# Altium footprint library J16-TESTBOARD.PcbLib: 36 footprints (part 2 of 3)
Each footprint in its own frame and in the unit in brackets; x right, y up, seen from the top. Pads: shape width x height; smd on the part's side, far side on the other; paste and mask are expansions set on the pad; w line width, h text height; cw(c..) or ccw(c..) is an arc to the next point about the centre after c.
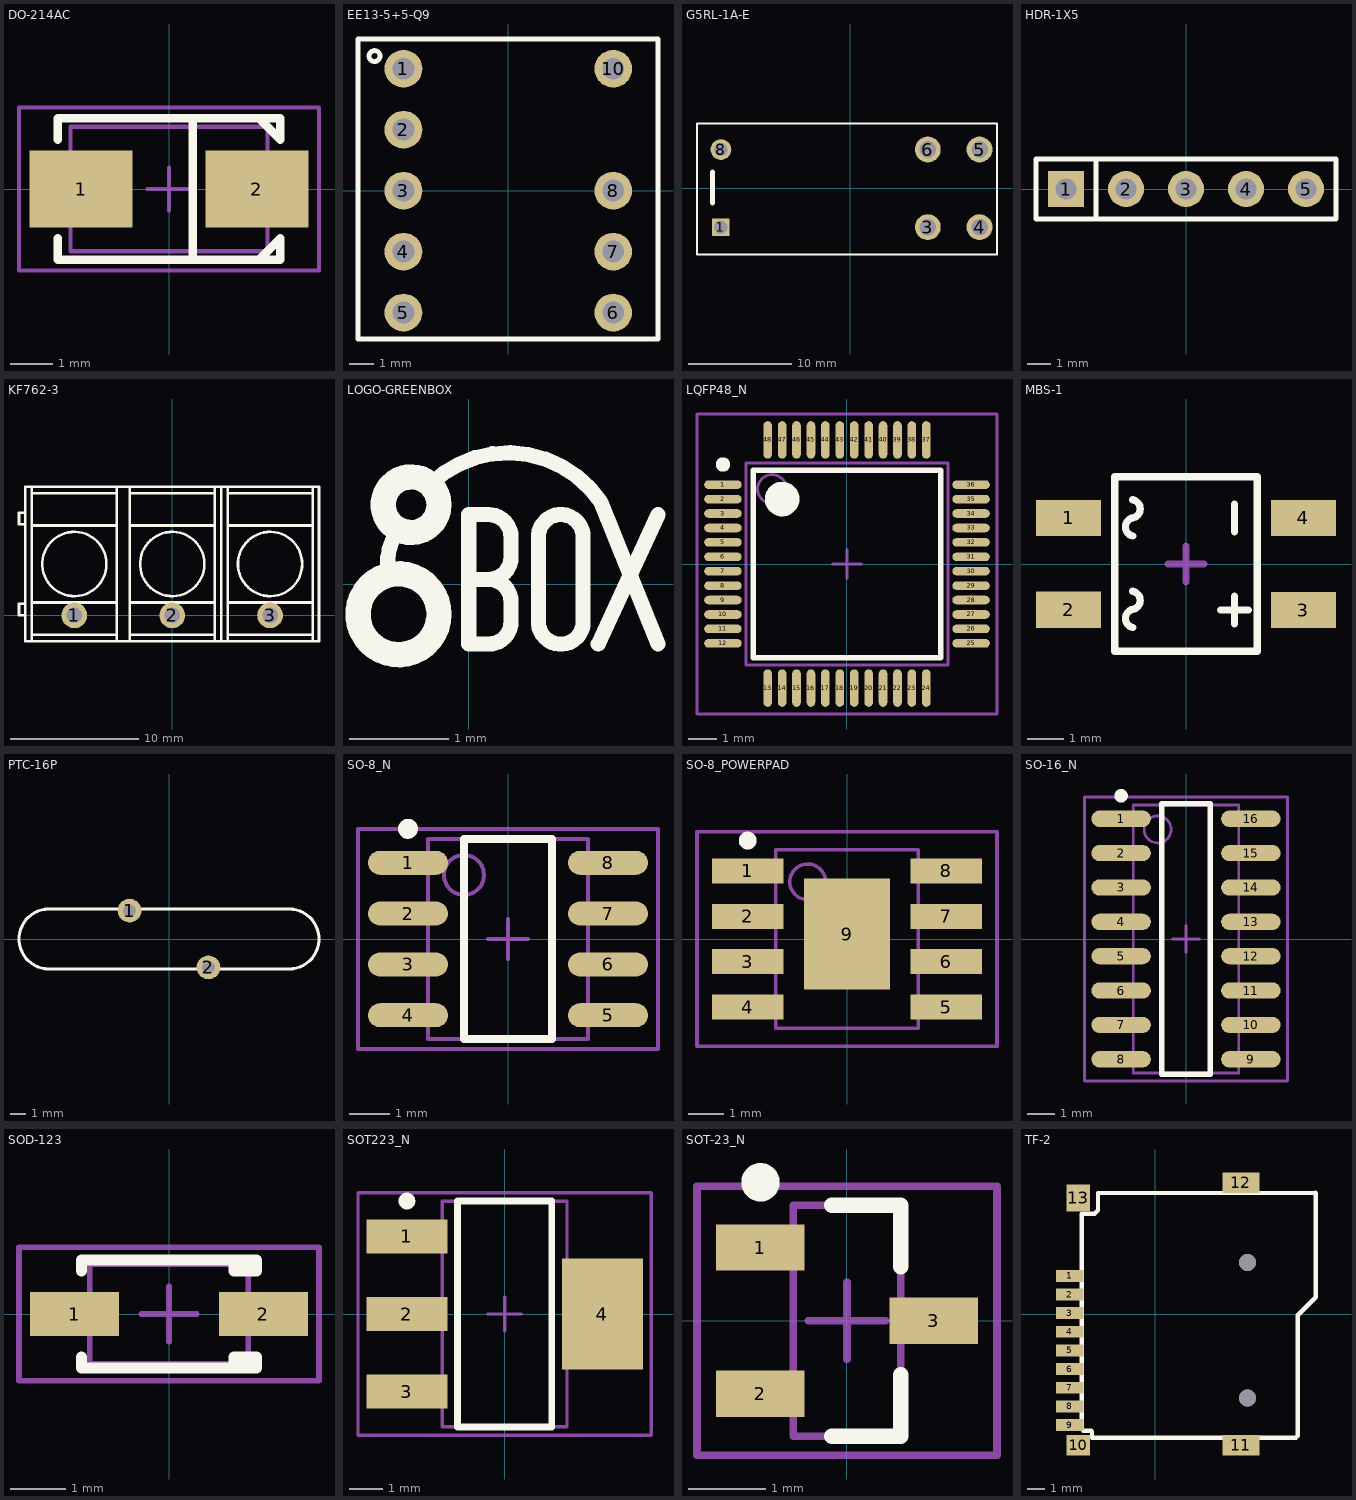
[diagram p1: the footprints below, top view; thin cyan lines are the x and y axes]

## DO-214AC [mm] "DO-214-AC/SMA; 2 C-Bend Leads; Body 5 x 2.7 mm, inc. leads (LxW)"
height 2.44
pads (2):
  rect 2.4x1.8 smd: 1(-2.05,0) 2(2.05,0)
Top Overlay:
  lines w0.2: -2.6,-1.15 -2.6,-1.65 2.6,-1.65 2.6,-1.15 2.1,-1.65 ; -2.6,1.15 -2.6,1.65 2.6,1.65 2.6,1.15 2.1,1.65 ; 0.55,-1.65 0.55,1.65
Mechanical 13:
  lines w0.1: -2.6,-0.8 -2.6,0.8 -1.75,0.8 -1.75,-0.8 -2.6,-0.8 ; -2.3,-1.45 -2.3,1.45 2.3,1.45 2.3,-1.45 -2.3,-1.45 ; 1.75,-0.8 2.6,-0.8 2.6,0.8 1.75,0.8 1.75,-0.8
Mechanical 15:
  lines w0.1: -0.5,0 0.5,0 ; 0,-0.5 0,0.5 ; -3.5,-1.9 -3.5,1.9 3.5,1.9 3.5,-1.9 -3.5,-1.9
3D body: height 2.6, standoff 0.03, extent -2.75,-1.4 2.75,1.4

## EE13-5+5-Q9 [mm]
height 10.8
pads (9):
  round 1.55 hole 0.9: 1(-4.3,5) 2(-4.3,2.5) 3(-4.3,0) 4(-4.3,-2.5) 5(-4.3,-5) 6(4.3,-5) 7(4.3,-2.5) 8(4.3,0) 10(4.3,5)
Top Overlay:
  circle w0.2: c-5.488,5.519 r0.224
  lines w0.2: 6.135,-6.081 -6.165,-6.081 -6.165,6.219 6.135,6.219 6.135,-6.024

## G5RL-1A-E [mm]
height 21
pads (6):
  rect 1.7x1.7 hole 1.3: 1(-12.5,-3.75)
  round 2.5 hole 1.6: 3(7.5,-3.75) 4(12.5,-3.75) 5(12.5,3.75) 6(7.5,3.75)
  round 2 hole 1.3: 8(-12.5,3.75)
Top Overlay:
  lines w0.2: -14.811,-6.417 14.189,-6.417 14.189,6.283 -14.811,6.283 -14.811,-6.417
  lines w0.508: -13.311,-1.417 -13.311,1.583

## HDR-1X5 [mil] "Header 5, Pitch 2.54mm"
height 314.96
pads (5):
  rect 60x60 hole 35: 1(-200,0)
  round 60 hole 35: 2(-100,0) 3(0,0) 4(100,0) 5(200,0)
Top Overlay:
  lines w7.87: -150,-50 -150,50 ; -250,-50 250,-50 250,50 -250,50 -250,-50
3D body: height 336.61, standoff -96.46, extent -250,-49.21 250,49.22

## KF762-3 [mm] "KF7.62-2P, Pitch 7.62mm"
height 12.4
pads (3):
  round 2 hole 1.2: 1(-7.62,0) 2(0,0) 3(7.62,0)
Top Overlay:
  circle w0.2: c-7.62,4 r2.5
  circle w0.2: c0,4 r2.5
  circle w0.2: c7.62,4 r2.5
  lines w0.2: -11.43,0 -11.93,0 -11.93,0.9 -11.43,0.9 ; -11.43,7.1 -11.93,7.1 -11.93,8 -11.43,8 ; -10.93,-2 -10.93,10 ; -10.93,1 -4.31,1 ; -10.93,7 -4.31,7 ; -10.91,-1.5 -4.31,-1.5 ; -10.91,9.5 -4.31,9.5 ; -4.31,-2 -4.31,10 ; -3.31,-2 -3.31,10 ; -3.31,-1.5 3.29,-1.5 ; -3.31,1 3.31,1 ; -3.31,7 3.31,7 ; -3.31,9.5 3.29,9.5 ; 3.31,-2 3.31,10 ; 3.81,-2 3.81,10 ; 4.31,-2 4.31,10 ; 4.31,-1.5 10.91,-1.5 ; 4.31,1 10.93,1 ; 4.31,7 10.93,7 ; 4.31,9.5 10.91,9.5 ; 10.93,-2 10.93,10 ; -11.43,-2 -11.43,10 11.43,10 11.43,-2 -11.43,-2

## LOGO-GREENBOX [mm]
Top Overlay:
  circle w0.254: c-0.579,0.8 r0.279
  circle w0.254: c-0.706,-0.3 r0.406
  lines w0.152: -0.8,0.1 cw(c-0.307,0.224) -0.73,0.506 ; -0.395,0.995 cw(c0.395,0.204) 1.326,0.823 1.9,-0.6 ; 0,0.05 0.2,0.05 ; 1.3,-0.6 1.9,0.7 ; 0.2,0.05 ccw(c0.2,0.274) 0.424,0.274 0.424,0.476 ccw(c0.2,0.476) 0.2,0.7 0,0.7 0,-0.6 0.2,-0.6 ccw(c0.2,-0.376) 0.424,-0.376 0.424,-0.174 ccw(c0.2,-0.174) 0.2,0.05 ; 0.7,-0.4 ccw(c0.924,-0.376) 1.147,-0.4 1.147,0.5 ccw(c0.924,0.476) 0.7,0.5 0.7,-0.4

## LQFP48_N [mm] "Thin QFP, 48-Leads, Body 7x7mm, Pitch 0.5mm, IPC Medium Density"
height 1.6
pads (48):
  oval 1.3x0.3 smd: 1(-4.3,2.75) 2(-4.3,2.25) 3(-4.3,1.75) 4(-4.3,1.25) 5(-4.3,0.75) 6(-4.3,0.25) 7(-4.3,-0.25) 8(-4.3,-0.75) 9(-4.3,-1.25) 10(-4.3,-1.75) 11(-4.3,-2.25) 12(-4.3,-2.75) 25(4.3,-2.75) 26(4.3,-2.25) 27(4.3,-1.75) 28(4.3,-1.25) 29(4.3,-0.75) 30(4.3,-0.25) 31(4.3,0.25) 32(4.3,0.75) 33(4.3,1.25) 34(4.3,1.75) 35(4.3,2.25) 36(4.3,2.75)
  oval 0.3x1.3 smd: 13(-2.75,-4.3) 14(-2.25,-4.3) 15(-1.75,-4.3) 16(-1.25,-4.3) 17(-0.75,-4.3) 18(-0.25,-4.3) 19(0.25,-4.3) 20(0.75,-4.3) 21(1.25,-4.3) 22(1.75,-4.3) 23(2.25,-4.3) 24(2.75,-4.3) 37(2.75,4.3) 38(2.25,4.3) 39(1.75,4.3) 40(1.25,4.3) 41(0.75,4.3) 42(0.25,4.3) 43(-0.25,4.3) 44(-0.75,4.3) 45(-1.25,4.3) 46(-1.75,4.3) 47(-2.25,4.3) 48(-2.75,4.3)
Top Overlay:
  circle w0.6: c-2.25,2.25 r0.3
  circle w0.25: c-4.3,3.45 r0.125
  lines w0.2: -3.25,-3.25 3.25,-3.25 3.25,3.25 -3.25,3.25 -3.25,-3.25
Mechanical 13:
  circle w0.1: c-2.6,2.6 r0.5
  lines w0.1: -3.5,-3.5 3.5,-3.5 3.5,3.5 -3.5,3.5 -3.5,-3.5
Mechanical 15:
  lines w0.1: -0.5,0 0.5,0 ; 0,-0.5 0,0.5 ; -5.2,-5.2 5.2,-5.2 5.2,5.2 -5.2,5.2 -5.2,-5.2
3D body: height 1.6, standoff 0, extent -4.513,-4.513 4.513,4.513

## MBS-1 [mm] "DF-S Pitch 2.54mm"
height 3.4
pads (4):
  rect 1.8x1 smd: 1(-3.25,1.275) 2(-3.25,-1.265) 3(3.25,-1.275) 4(3.25,1.275)
Top Overlay:
  lines w0.2: -1.472,-1.757 cw(c-1.422,-1.507) -1.472,-1.257 ccw(c-1.522,-1.007) -1.472,-0.757 ; -1.472,0.775 cw(c-1.422,1.025) -1.472,1.275 ccw(c-1.522,1.525) -1.472,1.775 ; 0.964,-1.275 1.726,-1.275 ; 1.345,-1.656 1.345,-0.894 ; 1.345,0.894 1.345,1.656 ; -1.968,-2.413 -1.968,2.413 1.969,2.413 1.969,-2.413 -1.968,-2.413
Mechanical 15:
  lines w0.2: -0.5,0 0.5,0 ; 0,-0.5 0,0.5
3D body: height 1.45, standoff -0.08, extent -3.4,-2.497 3.5,2.497

## PTC-16P [mm] "Body 21.5 x 6.3 mm (LxW typ)"
height 26
pads (2):
  round 1.5 hole 0.8: 1(-2.5,1.8) 2(2.5,-1.8)
Top Overlay:
  lines w0.2: -7.6,-1.9 cw(c-7.6,0) -7.6,1.9 7.6,1.9 cw(c7.6,0) 7.6,-1.9 -7.6,-1.9

## SO-8_N [mm] "8-Pin Small Outline Integrated Circuit 1.27 mm Pitch, IPC Medium Density"
height 1.75
pads (8):
  oval 2x0.6 smd: 1(-2.5,1.905) 2(-2.5,0.635) 3(-2.5,-0.635) 4(-2.5,-1.905) 5(2.5,-1.905) 6(2.5,-0.635) 7(2.5,0.635) 8(2.5,1.905)
Top Overlay:
  circle w0.25: c-2.5,2.755 r0.125
  lines w0.2: -1.1,-2.5 1.1,-2.5 1.1,2.5 -1.1,2.5 -1.1,-2.5
Mechanical 13:
  circle w0.1: c-1.1,1.6 r0.5
  lines w0.1: -2,-2.5 2,-2.5 2,2.5 -2,2.5 -2,-2.5
Mechanical 15:
  lines w0.1: -0.5,0 0.5,0 ; 0,-0.5 0,0.5 ; -3.75,-2.75 3.75,-2.75 3.75,2.75 -3.75,2.75 -3.75,-2.75
3D body: height 1.7, standoff 0, extent -3.003,-2.45 2.997,2.45

## SO-8_POWERPAD [mm] "8-Pin Small Outline Integrated Circuit 1.27 mm Pitch"
pads (9):
  rect 2x0.7 smd: 1(-2.78,1.905) 2(-2.78,0.635) 3(-2.78,-0.635) 4(-2.78,-1.905) 5(2.78,-1.905) 6(2.78,-0.635) 7(2.78,0.635) 8(2.78,1.905)
  rect 2.41x3.1 smd: 9(0,0.138)
Top Overlay:
  circle w0.25: c-2.78,2.755 r0.125
Mechanical 13:
  circle w0.1: c-1.1,1.6 r0.5
  lines w0.1: -2,-2.5 2,-2.5 2,2.5 -2,2.5 -2,-2.5
Mechanical 15:
  lines w0.1: -0.5,0 0.5,0 ; 0,-0.5 0,0.5 ; -4.2,-3 4.2,-3 4.2,3 -4.2,3 -4.2,-3
3D body: height 1.7, standoff 0, extent -3,-2.45 3,2.45

## SO-16_N [mm] "16-Pin Small Outline Integrated Circuit 1.27 mm Pitch, IPC Medium Density"
height 1.75
pads (16):
  oval 2.2x0.6 smd: 1(-2.4,4.445) 2(-2.4,3.175) 3(-2.4,1.905) 4(-2.4,0.635) 5(-2.4,-0.635) 6(-2.4,-1.905) 7(-2.4,-3.175) 8(-2.4,-4.445) 9(2.4,-4.445) 10(2.4,-3.175) 11(2.4,-1.905) 12(2.4,-0.635) 13(2.4,0.635) 14(2.4,1.905) 15(2.4,3.175) 16(2.4,4.445)
Top Overlay:
  circle w0.25: c-2.4,5.295 r0.125
  lines w0.2: -0.9,-5 0.9,-5 0.9,5 -0.9,5 -0.9,-5
Mechanical 13:
  circle w0.1: c-1.05,4.05 r0.5
  lines w0.1: -1.95,-4.95 1.95,-4.95 1.95,4.95 -1.95,4.95 -1.95,-4.95
Mechanical 15:
  lines w0.1: -0.5,0 0.5,0 ; 0,-0.5 0,0.5 ; -3.75,-5.25 3.75,-5.25 3.75,5.25 -3.75,5.25 -3.75,-5.25
3D body: height 1.7, standoff 0, extent -3,-5.1 3,5.1

## SOD-123 [mm] "SOD-123/SC-77; 2 Leads; Body 2.7 x 1.6 mm, (LxW)"
height 1.35
pads (2):
  rect 1.6x0.8 smd: 1(-1.7,0) 2(1.7,0)
Top Overlay:
  lines w0.2: -1.575,-0.775 -1.575,-0.975 1.575,-0.975 1.575,-0.775 1.175,-0.775 1.175,-0.975 ; -1.575,0.775 -1.575,0.975 1.575,0.975 1.575,0.775 1.175,0.775 1.175,0.975
Mechanical 13:
  lines w0.1: -1.425,-0.9 1.425,-0.9 1.425,0.9 -1.425,0.9 -1.425,-0.9
Mechanical 15:
  lines w0.1: -0.5,0 0.5,0 ; 0,-0.5 0,0.5 ; -2.7,-1.2 2.7,-1.2 2.7,1.2 -2.7,1.2 -2.7,-1.2
3D body: height 1.35, standoff 0, extent -1.85,-0.775 1.85,0.775

## SOT223_N [mm] "SOT223, 4-Leads, Body 6.5x3.5mm, Pitch 2.3mm, Lead Span 7mm, IPC Medium Density"
height 1.7
pads (4):
  rect 2.4x1 smd: 1(-2.9,2.3) 2(-2.9,0) 3(-2.9,-2.3)
  rect 2.4x3.3 smd: 4(2.9,0)
Top Overlay:
  circle w0.25: c-2.9,3.35 r0.125
  lines w0.2: -1.4,-3.35 -1.4,3.35 1.4,3.35 1.4,-3.35 -1.4,-3.35
Mechanical 13:
  lines w0.1: -1.85,-3.35 -1.85,3.35 1.85,3.35 1.85,-3.35 -1.85,-3.35
Mechanical 15:
  lines w0.1: -0.5,0 0.5,0 ; 0,-0.5 0,0.5 ; -4.35,-3.6 -4.35,3.6 4.35,3.6 4.35,-3.6 -4.35,-3.6
3D body: height 1.7, standoff 0, extent -3.5,-3.25 3.5,3.25

## SOT-23_N [mm] "SOT23, 3-Leads, Body 2.9x1.3mm, Pitch 0.95mm, Lead Span 2.5mm, IPC Medium Density"
height 1.1
pads (3):
  rect 1.15x0.6 smd: 1(-1.125,0.95) 2(-1.125,-0.95) 3(1.125,0)
Top Overlay:
  circle w0.25: c-1.125,1.8 r0.125
  lines w0.2: -0.2,-1.5 0.7,-1.5 0.7,-0.7 ; -0.2,1.5 0.7,1.5 0.7,0.7
Mechanical 13:
  lines w0.1: -0.7,-1.5 0.7,-1.5 0.7,1.5 -0.7,1.5 -0.7,-1.5
Mechanical 15:
  lines w0.1: -0.5,0 0.5,0 ; 0,-0.5 0,0.5 ; -1.95,-1.75 1.95,-1.75 1.95,1.75 -1.95,1.75 -1.95,-1.75
3D body: height 1, standoff 0, extent -1.221,-1.444 1.221,1.445

## TF-2 [mm]
pads (13):
  rect 1.6x0.7 smd: 1(-5.05,2.25) 2(-5.05,1.15) 3(-5.05,0.05) 4(-5.05,-1.05) 5(-5.05,-2.15) 6(-5.05,-3.25) 7(-5.05,-4.35) 8(-5.05,-5.45) 9(-5.05,-6.55)
  rect 1.4x1.2 smd: 10(-4.55,-7.75)
  rect 2.2x1.2 smd: 11(5.05,-7.75) 12(5.05,7.75)
  rect 1.4x1.6 smd: 13(-4.55,6.85)
via 5.45,-4.95 diameter 1 hole 1
via 5.45,3.05 diameter 1 hole 1
Top Overlay:
  lines w0.254: -3.738,-7.293 -3.738,-6.937 -3.789,-6.886 -4.246,-6.886 -4.348,-6.785 -4.348,5.915 -3.586,5.915 -3.383,6.118 -3.383,7.134 9.45,7.15 ; -3.688,-7.293 8.301,-7.293 8.403,-7.191 8.403,-0.079 9.47,0.988 9.47,7.13